# Altium schematic symbol library NEC_Control_PCB.SchLib: 5 symbols
Pins are listed as number, name and electrical type; pins without a type are passive.

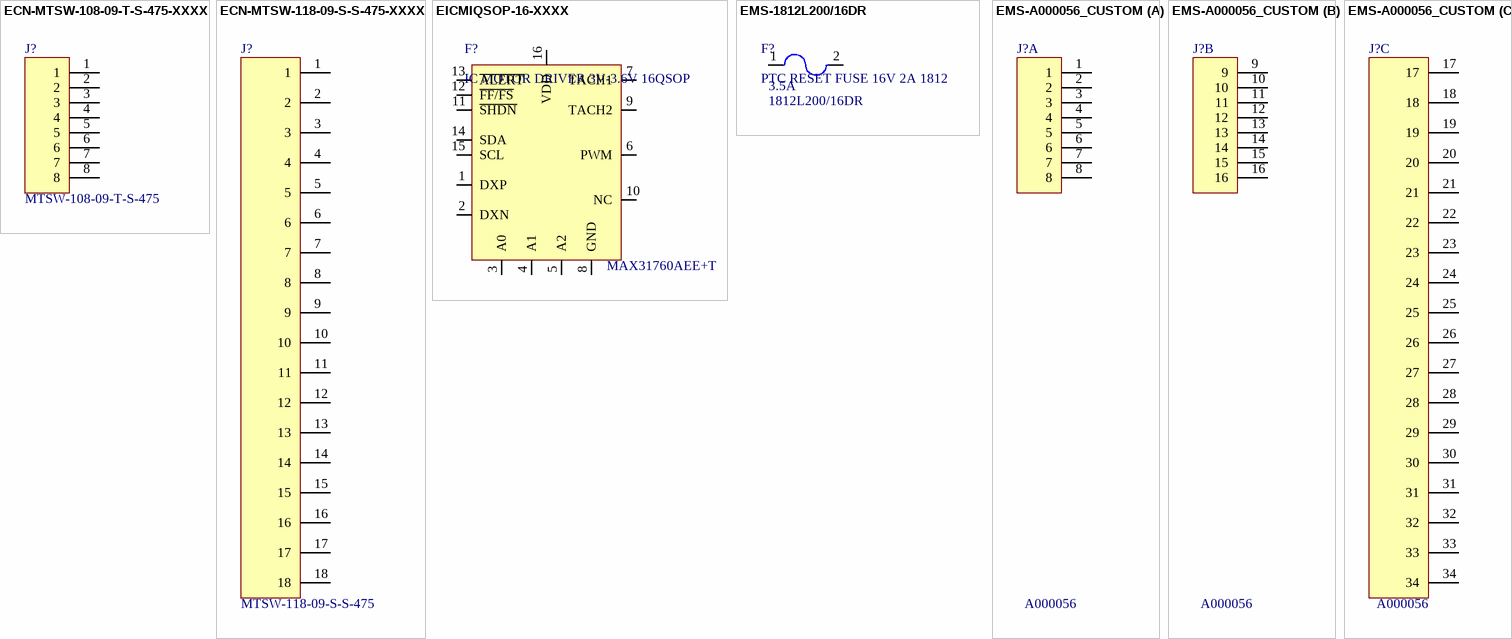
[diagram p0: symbols ECN-MTSW-108-09-T-S-475-XXXX to EMS-A000056_CUSTOM]

## ECN-MTSW-108-09-T-S-475-XXXX
designator J?, comment value MTSW-108-09-T-S-475  (hidden comment: CONN HEADER VERT 8POS 2.54MM)
Manufacturer: Samtec Inc.; Vendor Part Number: MTSW-108-09-T-S-475-ND; Internal Part Number: ECN-MTSW-108-09-T-S-475-XXXX; 3rd Auxiliary Field: ROHS3 Compliant; Vendor Name: Digi-Key; Component Height (mm): 18.54mm; 1st Auxiliary Field: 8pos; 2nd Auxiliary Field: 2.54mm; Manufacturer Part Number: MTSW-108-09-T-S-475; Part Type: CONN HEADER VERT 8POS 2.54MM; 4th Auxiliary Field: *; Temp Co: *
footprint HDRV8W64P254_1X8_2032X254X1854P
pins: 1, 2, 3, 4, 5, 6, 7, 8

## ECN-MTSW-118-09-S-S-475-XXXX
designator J?, comment value MTSW-118-09-S-S-475  (hidden comment: CONN HEADER VERT 18POS 2.54MM)
Manufacturer: Samtec Inc.; Vendor Part Number: MTSW-118-09-S-S-475-ND; Internal Part Number: ECN-MTSW-118-09-S-S-475-XXXX; 3rd Auxiliary Field: ROHS3 Compliant; Vendor Name: Digi-Key; Component Height (mm): 18.54mm; Manufacturer Part Number: MTSW-118-09-S-S-475; 1st Auxiliary Field: 18pos; 2nd Auxiliary Field: 2.54mm; Part Type: CONN HEADER VERT 18POS 2.54MM; 4th Auxiliary Field: *; Temp Co: *
footprint HDRV18W64P254_1X18_4572X254X1854P
pins: 1, 2, 3, 4, 5, 6, 7, 8, 9, 10, 11, 12, 13, 14, 15, 16, 17, 18

## EICMIQSOP-16-XXXX
designator F?, comment IC MOTOR DRIVER 3V-3.6V 16QSOP  value MAX31760AEE+T
Internal Part Number: EICMIQSOP-16-XXXX; Manufacturer: Maxim Integrated; Vendor Part Number: MAX31760AEE+TTR-ND; 1st Auxiliary Field: 3V ~ 3.6V; 3rd Auxiliary Field: ROHS3 Compliant; Component Height (mm): 1.75mm; Temp Co: -40°C ~ 125°C (TA); Vendor Name: Digi-Key; 2nd Auxiliary Field: I²C, PWM; 4th Auxiliary Field: *; Manufacturer Part Number: MAX31760AEE+T; Part Type: IC MOTOR DRIVER 3V-3.6V 16QSOP
footprint SOP64P600X175-16N (SOP, 16-Leads, Body 4.89x3.90mm, Pitch 0.64mm, IPC Medium Density)
pins: 1 DXP (power), 2 DXN (power), 3 A0 (power), 4 A1 (power), 5 A2 (power), 6 PWM (power), 7 TACH1 (power), 8 GND (power), 9 TACH2 (power), 10 NC (power), 11 ~{SHDN} (power), 12 ~{FF/FS} (power), 13 ~{ALERT} (power), 14 SDA (power), 15 SCL (power), 16 VDD (power)

## EMS-1812L200/16DR
designator F?, comment PTC RESET FUSE 16V 2A 1812  value 1812L200/16DR  2nd Auxiliary Field: 3.5A
Internal Part Number: EMS-1812L200/16DR; Manufacturer: Littelfuse Inc.; Vendor Part Number: F11449CT-ND; 3rd Auxiliary Field: ROHS3 Compliant; Component Height (mm): 1.20mm; Temp Co: -40°C ~ 85°C; Vendor Name: Digi-Key; 1st Auxiliary Field: 16V; 4th Auxiliary Field: *; Manufacturer Part Number: 1812L200/16DR; Part Type: PTC RESET FUSE 16V 2A 1812
footprint SMDF1812 (PTC RESET FUSE 16V 2A 1812)
pins: 1, 2

## EMS-A000056_CUSTOM
designator J?, comment value A000056  (hidden comment: ARDUINO DUE W/OUT HDRS ATSAM3X8E)
Vendor Part Number: 1050-1020-ND; Internal Part Number: EMS-A000056_CUSTOM; 1st Auxiliary Field: MCU 32-Bit; 2nd Auxiliary Field: ARM® Cortex®-M3; 3rd Auxiliary Field: RoHS Compliant; Vendor Name: Digi-Key; Manufacturer Part Number: A000056; Manufacturer: Arduino; Part Type: ARDUINO DUE W/OUT HDRS ATSAM3X8E; 4th Auxiliary Field: *; Temp Co: *
footprint MOD_A000056_CUSTOM
part A pins: 1, 2, 3, 4, 5, 6, 7, 8
part B pins: 9, 10, 11, 12, 13, 14, 15, 16
part C pins: 17, 18, 19, 20, 21, 22, 23, 24, 25, 26, 27, 28, 29, 30, 31, 32, 33, 34